# Altium schematic symbol library SATA_Vertical_Data_Connector.SchLib: 1 symbol
Pins are listed as number, name and electrical type; pins without a type are passive.

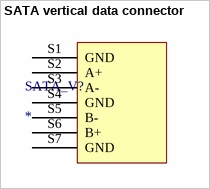
[diagram p0: symbol SATA vertical data connector]

## SATA vertical data connector
designator SATA_V?
footprint SATA_V (SATA Vertical Data Connector)
pins: S1 GND, S2 A+, S3 A-, S4 GND, S5 B-, S6 B+, S7 GND